# Altium integrated library Capacitors - Ceramic - 0402.IntLib: 4569 symbols (part 64 of 100)
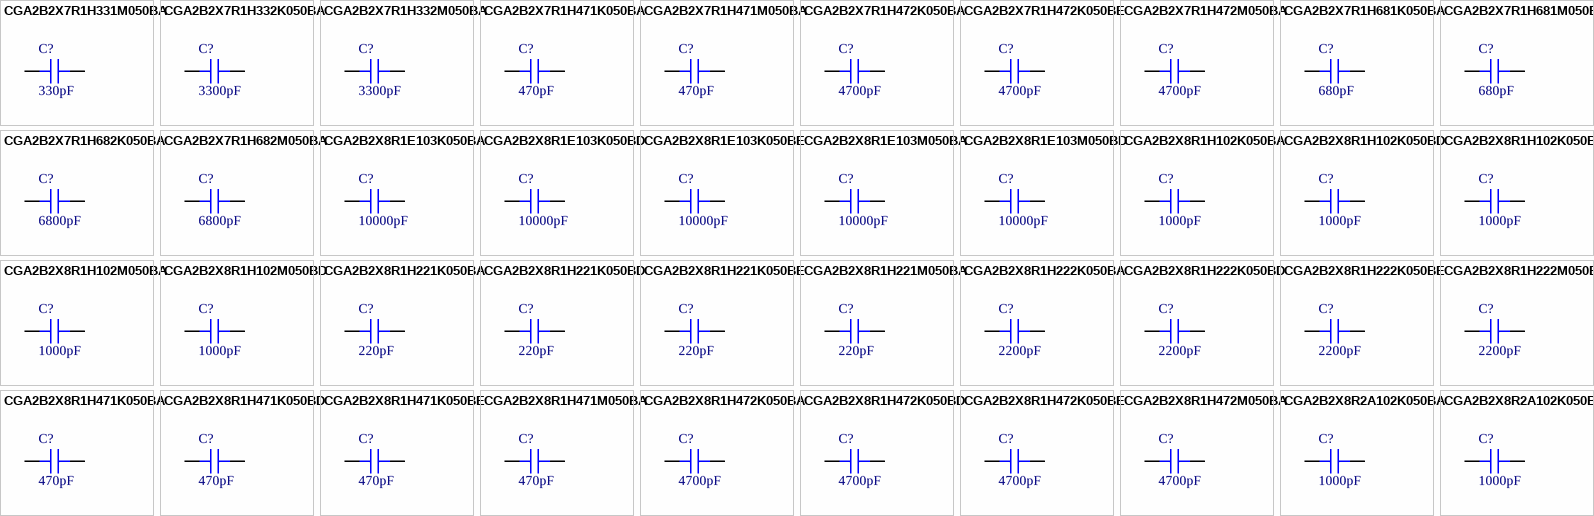
[diagram p177: symbols CGA2B2X7R1H331M050BA to CGA2B2X8R2A102K050BE]

## CGA2B2X8R1H102K050BD
designator C?, comment 1000pF
CAP CER 1000PF 50V 0402 EPOXY; Part Number: CGA2B2X8R1H102K050BD; Manufacturer: TDK Corporation; Temperature Coefficient: X8R; Tolerance: ±10%; Value: 1000pF; Applications: Automotive; Capacitance: 1000pF; ComponentLink1Description: Datasheet; ComponentLink1URL: https://product.tdk.com/info/en/catalog/datasheets/mlcc_automotive_epoxy_en.pdf?ref_disty=digikey; ComponentLink2Description: DigiKey Link; ComponentLink2URL: http://digikey.com/product-detail/en/tdk-corporation/CGA2B2X8R1H102K050BD/445-8854-1-ND/3248266; Device Package: 0402 (1005 Metric); Features: Epoxy Mountable; LastUpdated: 9/2/2020 1:02:18 AM; Lifecycle Status: Active; Minimum Order: 1; Mounting Type: Surface Mount, MLCC, Epoxy; Operating Temperature: -55°C ~ 150°C; Package / Case: 0402 (1005 Metric); Packaging: TapeAndReel; PartId: 4351; Part Status: Active; Price: 0.04; Ratings: AEC-Q200; Series: CGA; Size / Dimension: 0.039" L x 0.020" W (1.00mm x 0.50mm); Supplier 1: DigiKey; Supplier Part Number 1: 445-8854-1-ND; Thickness (Max): 0.022" (0.55mm); Voltage - Rated: 50V
footprint CAP 0402_1005
pins: 1, 2

## CGA2B2X8R1H102K050BE
designator C?, comment 1000pF
CAP CER 1000PF 50V X8R 0402; Part Number: CGA2B2X8R1H102K050BE; Manufacturer: TDK Corporation; Tolerance: ±10%; Value: 1000pF; Applications: Automotive, Boardflex Sensitive; Capacitance: 1000pF; ComponentLink1Description: Datasheet; ComponentLink1URL: https://product.tdk.com/info/en/catalog/datasheets/mlcc_automotive_soft_en.pdf?ref_disty=digikey; ComponentLink2Description: DigiKey Link; ComponentLink2URL: http://digikey.com/product-detail/en/tdk-corporation/CGA2B2X8R1H102K050BE/445-173800-1-ND/5809871; Device Package: 0402 (1005 Metric); Features: Soft Termination; LastUpdated: 9/2/2020 1:02:08 AM; Lifecycle Status: Active; Minimum Order: 1; Mounting Type: Surface Mount, MLCC; Operating Temperature: -55°C ~ 150°C; Package / Case: 0402 (1005 Metric); Packaging: TapeAndReel; PartId: 9241; Part Status: Active; Price: 0.04; Ratings: AEC-Q200; Series: CGA; Size / Dimension: 0.039" L x 0.020" W (1.00mm x 0.50mm); Supplier 1: DigiKey; Supplier Part Number 1: 445-173800-1-ND; Temperature Coefficient: X8R; Thickness (Max): 0.024" (0.60mm); Voltage - Rated: 50V
footprint CAP 0402_1005
pins: 1, 2

## CGA2B2X8R1H102M050BA
designator C?, comment 1000pF
CAP CER 1000PF 50V X8R 0402; Part Number: CGA2B2X8R1H102M050BA; Manufacturer: TDK Corporation; Tolerance: ±20%; Value: 1000pF; Applications: Automotive; Capacitance: 1000pF; ComponentLink1Description: Datasheet; ComponentLink1URL: https://product.tdk.com/info/en/catalog/datasheets/mlcc_automotive_hightemp_en.pdf?ref_disty=digikey; ComponentLink2Description: DigiKey Link; ComponentLink2URL: http://digikey.com/product-detail/en/tdk-corporation/CGA2B2X8R1H102M050BA/445-12305-1-ND/3953971; Device Package: 0402 (1005 Metric); Features: High Temperature; LastUpdated: 9/2/2020 1:01:58 AM; Lifecycle Status: Active; Minimum Order: 1; Mounting Type: Surface Mount, MLCC; Operating Temperature: -55°C ~ 150°C; Package / Case: 0402 (1005 Metric); Packaging: TapeAndReel; PartId: 11921; Part Status: Active; Price: 0.02; Ratings: AEC-Q200; Series: CGA; Size / Dimension: 0.039" L x 0.020" W (1.00mm x 0.50mm); Supplier 1: DigiKey; Supplier Part Number 1: 445-12305-1-ND; Temperature Coefficient: X8R; Thickness (Max): 0.022" (0.55mm); Voltage - Rated: 50V
footprint CAP 0402_1005
pins: 1, 2

## CGA2B2X8R1H102M050BD
designator C?, comment 1000pF
CAP CER 1000PF 50V 0402 EPOXY; Part Number: CGA2B2X8R1H102M050BD; Manufacturer: TDK Corporation; Temperature Coefficient: X8R; Tolerance: ±20%; Value: 1000pF; Applications: Automotive; Capacitance: 1000pF; ComponentLink1Description: Datasheet; ComponentLink1URL: https://product.tdk.com/info/en/catalog/datasheets/mlcc_automotive_epoxy_en.pdf?ref_disty=digikey; ComponentLink2Description: DigiKey Link; ComponentLink2URL: http://digikey.com/product-detail/en/tdk-corporation/CGA2B2X8R1H102M050BD/445-9708-1-ND/3931635; Device Package: 0402 (1005 Metric); Features: Epoxy Mountable; LastUpdated: 9/2/2020 1:02:08 AM; Lifecycle Status: Active; Minimum Order: 1; Mounting Type: Surface Mount, MLCC, Epoxy; Operating Temperature: -55°C ~ 150°C; Package / Case: 0402 (1005 Metric); Packaging: TapeAndReel; PartId: 9251; Part Status: Active; Price: 0.04; Ratings: AEC-Q200; Series: CGA; Size / Dimension: 0.039" L x 0.020" W (1.00mm x 0.50mm); Supplier 1: DigiKey; Supplier Part Number 1: 445-9708-1-ND; Thickness (Max): 0.024" (0.60mm); Voltage - Rated: 50V
footprint CAP 0402_1005
pins: 1, 2

## CGA2B2X8R1H221K050BA
designator C?, comment 220pF
CAP CER 220PF 50V X8R 0402; Part Number: CGA2B2X8R1H221K050BA; Manufacturer: TDK Corporation; Tolerance: ±10%; Value: 220pF; Applications: Automotive; Capacitance: 220pF; ComponentLink1Description: Datasheet; ComponentLink1URL: https://product.tdk.com/info/en/catalog/datasheets/mlcc_automotive_hightemp_en.pdf?ref_disty=digikey; ComponentLink2Description: DigiKey Link; ComponentLink2URL: http://digikey.com/product-detail/en/tdk-corporation/CGA2B2X8R1H221K050BA/445-5875-1-ND/2443915; Device Package: 0402 (1005 Metric); Features: High Temperature; LastUpdated: 9/2/2020 1:02:25 AM; Lifecycle Status: Active; Minimum Order: 1; Mounting Type: Surface Mount, MLCC; Operating Temperature: -55°C ~ 150°C; Package / Case: 0402 (1005 Metric); Packaging: TapeAndReel; PartId: 1793; Part Status: Active; Price: 0.02; Ratings: AEC-Q200; Series: CGA; Size / Dimension: 0.039" L x 0.020" W (1.00mm x 0.50mm); Supplier 1: DigiKey; Supplier Part Number 1: 445-5875-1-ND; Temperature Coefficient: X8R; Thickness (Max): 0.022" (0.55mm); Voltage - Rated: 50V
footprint CAP 0402_1005
pins: 1, 2

## CGA2B2X8R1H221K050BD
designator C?, comment 220pF
CAP CER 220PF 50V X8R 0402 EPOXY; Part Number: CGA2B2X8R1H221K050BD; Manufacturer: TDK Corporation; Tolerance: ±10%; Value: 220pF; Applications: Automotive; Capacitance: 220pF; ComponentLink1Description: Datasheet; ComponentLink1URL: https://product.tdk.com/info/en/catalog/datasheets/mlcc_automotive_epoxy_en.pdf?ref_disty=digikey; ComponentLink2Description: DigiKey Link; ComponentLink2URL: http://digikey.com/product-detail/en/tdk-corporation/CGA2B2X8R1H221K050BD/445-8856-1-ND/3248254; Device Package: 0402 (1005 Metric); Features: Epoxy Mountable; LastUpdated: 9/2/2020 1:02:18 AM; Lifecycle Status: Active; Minimum Order: 1; Mounting Type: Surface Mount, MLCC, Epoxy; Operating Temperature: -55°C ~ 150°C; Package / Case: 0402 (1005 Metric); Packaging: TapeAndReel; PartId: 4348; Part Status: Active; Price: 0.04; Ratings: AEC-Q200; Series: CGA; Size / Dimension: 0.039" L x 0.020" W (1.00mm x 0.50mm); Supplier 1: DigiKey; Supplier Part Number 1: 445-8856-1-ND; Temperature Coefficient: X8R; Thickness (Max): 0.022" (0.55mm); Voltage - Rated: 50V
footprint CAP 0402_1005
pins: 1, 2

## CGA2B2X8R1H221K050BE
designator C?, comment 220pF
CAP CER 220PF 50V X8R 0402; Part Number: CGA2B2X8R1H221K050BE; Manufacturer: TDK Corporation; Tolerance: ±10%; Value: 220pF; Applications: Automotive, Boardflex Sensitive; Capacitance: 220pF; ComponentLink1Description: Datasheet; ComponentLink1URL: https://product.tdk.com/info/en/catalog/datasheets/mlcc_automotive_soft_en.pdf?ref_disty=digikey; ComponentLink2Description: DigiKey Link; ComponentLink2URL: http://digikey.com/product-detail/en/tdk-corporation/CGA2B2X8R1H221K050BE/445-173829-1-ND/5809900; Device Package: 0402 (1005 Metric); Features: Soft Termination; LastUpdated: 9/2/2020 1:02:04 AM; Lifecycle Status: Active; Minimum Order: 1; Mounting Type: Surface Mount, MLCC; Operating Temperature: -55°C ~ 150°C; Package / Case: 0402 (1005 Metric); Packaging: TapeAndReel; PartId: 10948; Part Status: Active; Price: 0.04; Ratings: AEC-Q200; Series: CGA; Size / Dimension: 0.039" L x 0.020" W (1.00mm x 0.50mm); Supplier 1: DigiKey; Supplier Part Number 1: 445-173829-1-ND; Temperature Coefficient: X8R; Thickness (Max): 0.024" (0.60mm); Voltage - Rated: 50V
footprint CAP 0402_1005
pins: 1, 2

## CGA2B2X8R1H221M050BA
designator C?, comment 220pF
CAP CER 220PF 50V X8R 0402; Part Number: CGA2B2X8R1H221M050BA; Manufacturer: TDK Corporation; Tolerance: ±20%; Value: 220pF; Applications: Automotive; Capacitance: 220pF; ComponentLink1Description: Datasheet; ComponentLink1URL: https://product.tdk.com/info/en/catalog/datasheets/mlcc_automotive_hightemp_en.pdf?ref_disty=digikey; ComponentLink2Description: DigiKey Link; ComponentLink2URL: http://digikey.com/product-detail/en/tdk-corporation/CGA2B2X8R1H221M050BA/445-12309-1-ND/3953975; Device Package: 0402 (1005 Metric); Features: High Temperature; LastUpdated: 9/2/2020 1:01:23 AM; Lifecycle Status: Active; Minimum Order: 1; Mounting Type: Surface Mount, MLCC; Operating Temperature: -55°C ~ 150°C; Package / Case: 0402 (1005 Metric); Packaging: TapeAndReel; PartId: 13141; Part Status: Active; Price: 0.02; Ratings: AEC-Q200; Series: CGA; Size / Dimension: 0.039" L x 0.020" W (1.00mm x 0.50mm); Supplier 1: DigiKey; Supplier Part Number 1: 445-12309-1-ND; Temperature Coefficient: X8R; Thickness (Max): 0.022" (0.55mm); Voltage - Rated: 50V
footprint CAP 0402_1005
pins: 1, 2

## CGA2B2X8R1H222K050BA
designator C?, comment 2200pF
CAP CER 2200PF 50V X8R 0402; Part Number: CGA2B2X8R1H222K050BA; Manufacturer: TDK Corporation; Tolerance: ±10%; Value: 2200pF; Applications: Automotive; Capacitance: 2200pF; ComponentLink1Description: Datasheet; ComponentLink1URL: https://product.tdk.com/info/en/catalog/datasheets/mlcc_automotive_hightemp_en.pdf?ref_disty=digikey; ComponentLink2Description: DigiKey Link; ComponentLink2URL: http://digikey.com/product-detail/en/tdk-corporation/CGA2B2X8R1H222K050BA/445-5881-1-ND/2443921; Device Package: 0402 (1005 Metric); Features: High Temperature; LastUpdated: 9/2/2020 1:01:57 AM; Lifecycle Status: Active; Minimum Order: 1; Mounting Type: Surface Mount, MLCC; Operating Temperature: -55°C ~ 150°C; Package / Case: 0402 (1005 Metric); Packaging: TapeAndReel; PartId: 11954; Part Status: Active; Price: 0.03; Ratings: AEC-Q200; Series: CGA; Size / Dimension: 0.039" L x 0.020" W (1.00mm x 0.50mm); Supplier 1: DigiKey; Supplier Part Number 1: 445-5881-1-ND; Temperature Coefficient: X8R; Thickness (Max): 0.022" (0.55mm); Voltage - Rated: 50V
footprint CAP 0402_1005
pins: 1, 2

## CGA2B2X8R1H222K050BD
designator C?, comment 2200pF
CAP CER 2200PF 50V 0402 EPOXY; Part Number: CGA2B2X8R1H222K050BD; Manufacturer: TDK Corporation; Temperature Coefficient: X8R; Tolerance: ±10%; Value: 2200pF; Applications: Automotive; Capacitance: 2200pF; ComponentLink1Description: Datasheet; ComponentLink1URL: https://product.tdk.com/info/en/catalog/datasheets/mlcc_automotive_epoxy_en.pdf?ref_disty=digikey; ComponentLink2Description: DigiKey Link; ComponentLink2URL: http://digikey.com/product-detail/en/tdk-corporation/CGA2B2X8R1H222K050BD/445-8853-1-ND/3248271; Device Package: 0402 (1005 Metric); Features: Epoxy Mountable; LastUpdated: 9/2/2020 1:02:08 AM; Lifecycle Status: Active; Minimum Order: 1; Mounting Type: Surface Mount, MLCC, Epoxy; Operating Temperature: -55°C ~ 150°C; Package / Case: 0402 (1005 Metric); Packaging: TapeAndReel; PartId: 9225; Part Status: Active; Price: 0.04; Ratings: AEC-Q200; Series: CGA; Size / Dimension: 0.039" L x 0.020" W (1.00mm x 0.50mm); Supplier 1: DigiKey; Supplier Part Number 1: 445-8853-1-ND; Thickness (Max): 0.022" (0.55mm); Voltage - Rated: 50V
footprint CAP 0402_1005
pins: 1, 2

## CGA2B2X8R1H222K050BE
designator C?, comment 2200pF
CAP CER 2200PF 50V X8R 0402; Part Number: CGA2B2X8R1H222K050BE; Manufacturer: TDK Corporation; Tolerance: ±10%; Value: 2200pF; Applications: Automotive, Boardflex Sensitive; Capacitance: 2200pF; ComponentLink1Description: Datasheet; ComponentLink1URL: https://product.tdk.com/info/en/catalog/datasheets/mlcc_automotive_soft_en.pdf?ref_disty=digikey; ComponentLink2Description: DigiKey Link; ComponentLink2URL: http://digikey.com/product-detail/en/tdk-corporation/CGA2B2X8R1H222K050BE/445-173815-1-ND/5809886; Device Package: 0402 (1005 Metric); Features: Soft Termination; LastUpdated: 9/2/2020 1:02:04 AM; Lifecycle Status: Active; Minimum Order: 1; Mounting Type: Surface Mount, MLCC; Operating Temperature: -55°C ~ 150°C; Package / Case: 0402 (1005 Metric); Packaging: TapeAndReel; PartId: 10952; Part Status: Active; Price: 0.04; Ratings: AEC-Q200; Series: CGA; Size / Dimension: 0.039" L x 0.020" W (1.00mm x 0.50mm); Supplier 1: DigiKey; Supplier Part Number 1: 445-173815-1-ND; Temperature Coefficient: X8R; Thickness (Max): 0.024" (0.60mm); Voltage - Rated: 50V
footprint CAP 0402_1005
pins: 1, 2

## CGA2B2X8R1H222M050BA
designator C?, comment 2200pF
CAP CER 2200PF 50V X8R 0402; Part Number: CGA2B2X8R1H222M050BA; Manufacturer: TDK Corporation; Tolerance: ±20%; Value: 2200pF; Applications: Automotive; Capacitance: 2200pF; ComponentLink1Description: Datasheet; ComponentLink1URL: https://product.tdk.com/info/en/catalog/datasheets/mlcc_automotive_hightemp_en.pdf?ref_disty=digikey; ComponentLink2Description: DigiKey Link; ComponentLink2URL: http://digikey.com/product-detail/en/tdk-corporation/CGA2B2X8R1H222M050BA/445-12308-1-ND/3953974; Device Package: 0402 (1005 Metric); Features: High Temperature; LastUpdated: 9/2/2020 1:01:56 AM; Lifecycle Status: Active; Minimum Order: 1; Mounting Type: Surface Mount, MLCC; Operating Temperature: -55°C ~ 150°C; Package / Case: 0402 (1005 Metric); Packaging: TapeAndReel; PartId: 11964; Part Status: Active; Price: 0.03; Ratings: AEC-Q200; Series: CGA; Size / Dimension: 0.039" L x 0.020" W (1.00mm x 0.50mm); Supplier 1: DigiKey; Supplier Part Number 1: 445-12308-1-ND; Temperature Coefficient: X8R; Thickness (Max): 0.022" (0.55mm); Voltage - Rated: 50V
footprint CAP 0402_1005
pins: 1, 2

## CGA2B2X8R1H471K050BA
designator C?, comment 470pF
CAP CER 470PF 50V X8R 0402; Part Number: CGA2B2X8R1H471K050BA; Manufacturer: TDK Corporation; Tolerance: ±10%; Value: 470pF; Applications: Automotive; Capacitance: 470pF; ComponentLink1Description: Datasheet; ComponentLink1URL: https://product.tdk.com/info/en/catalog/datasheets/mlcc_automotive_hightemp_en.pdf?ref_disty=digikey; ComponentLink2Description: DigiKey Link; ComponentLink2URL: http://digikey.com/product-detail/en/tdk-corporation/CGA2B2X8R1H471K050BA/445-5877-1-ND/2443917; Device Package: 0402 (1005 Metric); Features: High Temperature; LastUpdated: 9/2/2020 1:02:25 AM; Lifecycle Status: Active; Minimum Order: 1; Mounting Type: Surface Mount, MLCC; Operating Temperature: -55°C ~ 150°C; Package / Case: 0402 (1005 Metric); Packaging: TapeAndReel; PartId: 1791; Part Status: Active; Price: 0.02; Ratings: AEC-Q200; Series: CGA; Size / Dimension: 0.039" L x 0.020" W (1.00mm x 0.50mm); Supplier 1: DigiKey; Supplier Part Number 1: 445-5877-1-ND; Temperature Coefficient: X8R; Thickness (Max): 0.022" (0.55mm); Voltage - Rated: 50V
footprint CAP 0402_1005
pins: 1, 2

## CGA2B2X8R1H471K050BD
designator C?, comment 470pF
CAP CER 470PF 50V X8R 0402 EPOXY; Part Number: CGA2B2X8R1H471K050BD; Manufacturer: TDK Corporation; Tolerance: ±10%; Value: 470pF; Applications: Automotive; Capacitance: 470pF; ComponentLink1Description: Datasheet; ComponentLink1URL: https://product.tdk.com/info/en/catalog/datasheets/mlcc_automotive_epoxy_en.pdf?ref_disty=digikey; ComponentLink2Description: DigiKey Link; ComponentLink2URL: http://digikey.com/product-detail/en/tdk-corporation/CGA2B2X8R1H471K050BD/445-8855-1-ND/3248202; Device Package: 0402 (1005 Metric); Features: Epoxy Mountable; LastUpdated: 9/2/2020 1:02:22 AM; Lifecycle Status: Active; Minimum Order: 1; Mounting Type: Surface Mount, MLCC, Epoxy; Operating Temperature: -55°C ~ 150°C; Package / Case: 0402 (1005 Metric); Packaging: TapeAndReel; PartId: 2479; Part Status: Active; Price: 0.04; Ratings: AEC-Q200; Series: CGA; Size / Dimension: 0.039" L x 0.020" W (1.00mm x 0.50mm); Supplier 1: DigiKey; Supplier Part Number 1: 445-8855-1-ND; Temperature Coefficient: X8R; Thickness (Max): 0.022" (0.55mm); Voltage - Rated: 50V
footprint CAP 0402_1005
pins: 1, 2

## CGA2B2X8R1H471K050BE
designator C?, comment 470pF
CAP CER 470PF 50V X8R 0402; Part Number: CGA2B2X8R1H471K050BE; Manufacturer: TDK Corporation; Tolerance: ±10%; Value: 470pF; Applications: Automotive, Boardflex Sensitive; Capacitance: 470pF; ComponentLink1Description: Datasheet; ComponentLink1URL: https://product.tdk.com/info/en/catalog/datasheets/mlcc_automotive_soft_en.pdf?ref_disty=digikey; ComponentLink2Description: DigiKey Link; ComponentLink2URL: http://digikey.com/product-detail/en/tdk-corporation/CGA2B2X8R1H471K050BE/445-173855-1-ND/5809926; Device Package: 0402 (1005 Metric); Features: Soft Termination; LastUpdated: 9/2/2020 1:02:04 AM; Lifecycle Status: Active; Minimum Order: 1; Mounting Type: Surface Mount, MLCC; Operating Temperature: -55°C ~ 150°C; Package / Case: 0402 (1005 Metric); Packaging: TapeAndReel; PartId: 10960; Part Status: Active; Price: 0.04; Ratings: AEC-Q200; Series: CGA; Size / Dimension: 0.039" L x 0.020" W (1.00mm x 0.50mm); Supplier 1: DigiKey; Supplier Part Number 1: 445-173855-1-ND; Temperature Coefficient: X8R; Thickness (Max): 0.024" (0.60mm); Voltage - Rated: 50V
footprint CAP 0402_1005
pins: 1, 2

## CGA2B2X8R1H471M050BA
designator C?, comment 470pF
CAP CER 470PF 50V X8R 0402; Part Number: CGA2B2X8R1H471M050BA; Manufacturer: TDK Corporation; Tolerance: ±20%; Value: 470pF; Applications: Automotive; Capacitance: 470pF; ComponentLink1Description: Datasheet; ComponentLink1URL: https://product.tdk.com/info/en/catalog/datasheets/mlcc_automotive_hightemp_en.pdf?ref_disty=digikey; ComponentLink2Description: DigiKey Link; ComponentLink2URL: http://digikey.com/product-detail/en/tdk-corporation/CGA2B2X8R1H471M050BA/445-12313-1-ND/3953979; Device Package: 0402 (1005 Metric); Features: High Temperature; LastUpdated: 9/2/2020 1:01:23 AM; Lifecycle Status: Active; Minimum Order: 1; Mounting Type: Surface Mount, MLCC; Operating Temperature: -55°C ~ 150°C; Package / Case: 0402 (1005 Metric); Packaging: TapeAndReel; PartId: 13125; Part Status: Active; Price: 0.02; Ratings: AEC-Q200; Series: CGA; Size / Dimension: 0.039" L x 0.020" W (1.00mm x 0.50mm); Supplier 1: DigiKey; Supplier Part Number 1: 445-12313-1-ND; Temperature Coefficient: X8R; Thickness (Max): 0.022" (0.55mm); Voltage - Rated: 50V
footprint CAP 0402_1005
pins: 1, 2

## CGA2B2X8R1H472K050BA
designator C?, comment 4700pF
CAP CER 4700PF 50V X8R 0402; Part Number: CGA2B2X8R1H472K050BA; Manufacturer: TDK Corporation; Tolerance: ±10%; Value: 4700pF; Applications: Automotive; Capacitance: 4700pF; ComponentLink1Description: Datasheet; ComponentLink1URL: https://product.tdk.com/info/en/catalog/datasheets/mlcc_automotive_hightemp_en.pdf?ref_disty=digikey; ComponentLink2Description: DigiKey Link; ComponentLink2URL: http://digikey.com/product-detail/en/tdk-corporation/CGA2B2X8R1H472K050BA/445-5883-1-ND/2443923; Device Package: 0402 (1005 Metric); Features: High Temperature; LastUpdated: 9/2/2020 1:01:15 AM; Lifecycle Status: Active; Minimum Order: 1; Mounting Type: Surface Mount, MLCC; Operating Temperature: -55°C ~ 150°C; Package / Case: 0402 (1005 Metric); Packaging: TapeAndReel; PartId: 13402; Part Status: Active; Price: 0.03; Ratings: AEC-Q200; Series: CGA; Size / Dimension: 0.039" L x 0.020" W (1.00mm x 0.50mm); Supplier 1: DigiKey; Supplier Part Number 1: 445-5883-1-ND; Temperature Coefficient: X8R; Thickness (Max): 0.022" (0.55mm); Voltage - Rated: 50V
footprint CAP 0402_1005
pins: 1, 2

## CGA2B2X8R1H472K050BD
designator C?, comment 4700pF
CAP CER 4700PF 50V 0402 EPOXY; Part Number: CGA2B2X8R1H472K050BD; Manufacturer: TDK Corporation; Temperature Coefficient: X8R; Tolerance: ±10%; Value: 4700pF; Applications: Automotive; Capacitance: 4700pF; ComponentLink1Description: Datasheet; ComponentLink1URL: https://product.tdk.com/info/en/catalog/datasheets/mlcc_automotive_epoxy_en.pdf?ref_disty=digikey; ComponentLink2Description: DigiKey Link; ComponentLink2URL: http://digikey.com/product-detail/en/tdk-corporation/CGA2B2X8R1H472K050BD/445-8844-1-ND/3248274; Device Package: 0402 (1005 Metric); Features: Epoxy Mountable; LastUpdated: 9/2/2020 1:02:08 AM; Lifecycle Status: Active; Minimum Order: 1; Mounting Type: Surface Mount, MLCC, Epoxy; Operating Temperature: -55°C ~ 150°C; Package / Case: 0402 (1005 Metric); Packaging: TapeAndReel; PartId: 9265; Part Status: Active; Price: 0.04; Ratings: AEC-Q200; Series: CGA; Size / Dimension: 0.039" L x 0.020" W (1.00mm x 0.50mm); Supplier 1: DigiKey; Supplier Part Number 1: 445-8844-1-ND; Thickness (Max): 0.022" (0.55mm); Voltage - Rated: 50V
footprint CAP 0402_1005
pins: 1, 2

## CGA2B2X8R1H472K050BE
designator C?, comment 4700pF
CAP CER 4700PF 50V X8R 0402; Part Number: CGA2B2X8R1H472K050BE; Manufacturer: TDK Corporation; Tolerance: ±10%; Value: 4700pF; Applications: Automotive, Boardflex Sensitive; Capacitance: 4700pF; ComponentLink1Description: Datasheet; ComponentLink1URL: https://product.tdk.com/info/en/catalog/datasheets/mlcc_automotive_soft_en.pdf?ref_disty=digikey; ComponentLink2Description: DigiKey Link; ComponentLink2URL: http://digikey.com/product-detail/en/tdk-corporation/CGA2B2X8R1H472K050BE/445-173824-1-ND/5809895; Device Package: 0402 (1005 Metric); Features: Soft Termination; LastUpdated: 9/2/2020 1:02:04 AM; Lifecycle Status: Active; Minimum Order: 1; Mounting Type: Surface Mount, MLCC; Operating Temperature: -55°C ~ 150°C; Package / Case: 0402 (1005 Metric); Packaging: TapeAndReel; PartId: 10989; Part Status: Active; Price: 0.04; Ratings: AEC-Q200; Series: CGA; Size / Dimension: 0.039" L x 0.020" W (1.00mm x 0.50mm); Supplier 1: DigiKey; Supplier Part Number 1: 445-173824-1-ND; Temperature Coefficient: X8R; Thickness (Max): 0.024" (0.60mm); Voltage - Rated: 50V
footprint CAP 0402_1005
pins: 1, 2

## CGA2B2X8R1H472M050BA
designator C?, comment 4700pF
CAP CER 4700PF 50V X8R 0402; Part Number: CGA2B2X8R1H472M050BA; Manufacturer: TDK Corporation; Tolerance: ±20%; Value: 4700pF; Applications: Automotive; Capacitance: 4700pF; ComponentLink1Description: Datasheet; ComponentLink1URL: https://product.tdk.com/info/en/catalog/datasheets/mlcc_automotive_hightemp_en.pdf?ref_disty=digikey; ComponentLink2Description: DigiKey Link; ComponentLink2URL: http://digikey.com/product-detail/en/tdk-corporation/CGA2B2X8R1H472M050BA/445-12312-1-ND/3953978; Device Package: 0402 (1005 Metric); Features: High Temperature; LastUpdated: 9/2/2020 1:02:14 AM; Lifecycle Status: Active; Minimum Order: 1; Mounting Type: Surface Mount, MLCC; Operating Temperature: -55°C ~ 150°C; Package / Case: 0402 (1005 Metric); Packaging: TapeAndReel; PartId: 6452; Part Status: Active; Price: 0.03; Ratings: AEC-Q200; Series: CGA; Size / Dimension: 0.039" L x 0.020" W (1.00mm x 0.50mm); Supplier 1: DigiKey; Supplier Part Number 1: 445-12312-1-ND; Temperature Coefficient: X8R; Thickness (Max): 0.022" (0.55mm); Voltage - Rated: 50V
footprint CAP 0402_1005
pins: 1, 2

## CGA2B2X8R2A102K050BA
designator C?, comment 1000pF
CAP CER 1000PF 100V X8R 0402; Part Number: CGA2B2X8R2A102K050BA; Manufacturer: TDK Corporation; Tolerance: ±10%; Value: 1000pF; Applications: Automotive; Capacitance: 1000pF; ComponentLink1Description: Datasheet; ComponentLink1URL: https://product.tdk.com/info/en/catalog/datasheets/mlcc_automotive_hightemp_en.pdf?ref_disty=digikey; ComponentLink2Description: DigiKey Link; ComponentLink2URL: http://digikey.com/product-detail/en/tdk-corporation/CGA2B2X8R2A102K050BA/445-15935-1-ND/4490643; Device Package: 0402 (1005 Metric); Features: High Temperature; LastUpdated: 9/2/2020 1:02:14 AM; Lifecycle Status: Active; Minimum Order: 1; Mounting Type: Surface Mount, MLCC; Operating Temperature: -55°C ~ 150°C; Package / Case: 0402 (1005 Metric); Packaging: TapeAndReel; PartId: 6379; Part Status: Active; Price: 0.05; Ratings: AEC-Q200; Series: CGA; Size / Dimension: 0.039" L x 0.020" W (1.00mm x 0.50mm); Supplier 1: DigiKey; Supplier Part Number 1: 445-15935-1-ND; Temperature Coefficient: X8R; Thickness (Max): 0.022" (0.55mm); Voltage - Rated: 100V
footprint CAP 0402_1005
pins: 1, 2

## CGA2B2X8R2A102K050BE
designator C?, comment 1000pF
CAP CER 1000PF 100V X8R 0402; Part Number: CGA2B2X8R2A102K050BE; Manufacturer: TDK Corporation; Tolerance: ±10%; Value: 1000pF; Applications: Automotive, Boardflex Sensitive; Capacitance: 1000pF; ComponentLink1Description: Datasheet; ComponentLink1URL: https://product.tdk.com/info/en/catalog/datasheets/mlcc_automotive_soft_en.pdf?ref_disty=digikey; ComponentLink2Description: DigiKey Link; ComponentLink2URL: http://digikey.com/product-detail/en/tdk-corporation/CGA2B2X8R2A102K050BE/445-181687-1-ND/10292484; Device Package: 0402 (1005 Metric); Features: Soft Termination; LastUpdated: 9/2/2020 1:01:47 AM; Lifecycle Status: Active; Minimum Order: 1; Mounting Type: Surface Mount, MLCC; Operating Temperature: -55°C ~ 150°C; Package / Case: 0402 (1005 Metric); Packaging: TapeAndReel; PartId: 12323; Part Status: Active; Price: 0.06; Ratings: AEC-Q200; Series: CGA; Size / Dimension: 0.039" L x 0.020" W (1.00mm x 0.50mm); Supplier 1: DigiKey; Supplier Part Number 1: 445-181687-1-ND; Temperature Coefficient: X8R; Thickness (Max): 0.024" (0.60mm); Voltage - Rated: 100V
footprint CAP 0402_1005
pins: 1, 2

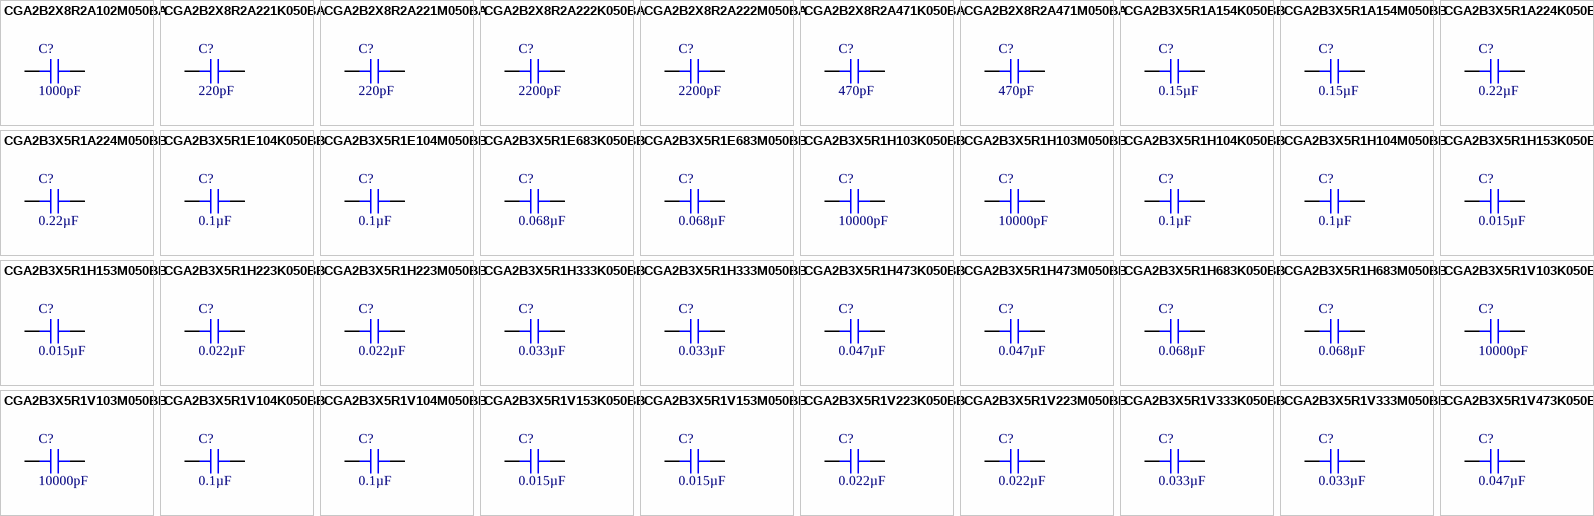
[diagram p73: symbols CGA2B2X8R2A102M050BA to CGA2B3X5R1V473K050BB]

## CGA2B2X8R2A102M050BA
designator C?, comment 1000pF
CAP CER 1000PF 100V X8R 0402; Part Number: CGA2B2X8R2A102M050BA; Manufacturer: TDK Corporation; Tolerance: ±20%; Value: 1000pF; Applications: Automotive; Capacitance: 1000pF; ComponentLink1Description: Datasheet; ComponentLink1URL: https://product.tdk.com/info/en/catalog/datasheets/mlcc_automotive_hightemp_en.pdf?ref_disty=digikey; ComponentLink2Description: DigiKey Link; ComponentLink2URL: http://digikey.com/product-detail/en/tdk-corporation/CGA2B2X8R2A102M050BA/445-15936-1-ND/4490644; Device Package: 0402 (1005 Metric); Features: High Temperature; LastUpdated: 9/2/2020 1:02:06 AM; Lifecycle Status: Active; Minimum Order: 1; Mounting Type: Surface Mount, MLCC; Operating Temperature: -55°C ~ 150°C; Package / Case: 0402 (1005 Metric); Packaging: TapeAndReel; PartId: 10163; Part Status: Active; Price: 0.05; Ratings: AEC-Q200; Series: CGA; Size / Dimension: 0.039" L x 0.020" W (1.00mm x 0.50mm); Supplier 1: DigiKey; Supplier Part Number 1: 445-15936-1-ND; Temperature Coefficient: X8R; Thickness (Max): 0.022" (0.55mm); Voltage - Rated: 100V
footprint CAP 0402_1005
pins: 1, 2

## CGA2B2X8R2A221K050BA
designator C?, comment 220pF
CAP CER 220PF 100V X8R 0402; Part Number: CGA2B2X8R2A221K050BA; Manufacturer: TDK Corporation; Tolerance: ±10%; Value: 220pF; Applications: Automotive; Capacitance: 220pF; ComponentLink1Description: Datasheet; ComponentLink1URL: https://product.tdk.com/info/en/catalog/datasheets/mlcc_automotive_hightemp_en.pdf?ref_disty=digikey; ComponentLink2Description: DigiKey Link; ComponentLink2URL: http://digikey.com/product-detail/en/tdk-corporation/CGA2B2X8R2A221K050BA/445-15941-1-ND/4490649; Device Package: 0402 (1005 Metric); Features: High Temperature; LastUpdated: 9/2/2020 1:02:08 AM; Lifecycle Status: Active; Minimum Order: 1; Mounting Type: Surface Mount, MLCC; Operating Temperature: -55°C ~ 150°C; Package / Case: 0402 (1005 Metric); Packaging: TapeAndReel; PartId: 9297; Part Status: Active; Price: 0.04; Ratings: AEC-Q200; Series: CGA; Size / Dimension: 0.039" L x 0.020" W (1.00mm x 0.50mm); Supplier 1: DigiKey; Supplier Part Number 1: 445-15941-1-ND; Temperature Coefficient: X8R; Thickness (Max): 0.022" (0.55mm); Voltage - Rated: 100V
footprint CAP 0402_1005
pins: 1, 2

## CGA2B2X8R2A221M050BA
designator C?, comment 220pF
CAP CER 220PF 100V X8R 0402; Part Number: CGA2B2X8R2A221M050BA; Manufacturer: TDK Corporation; Tolerance: ±20%; Value: 220pF; Applications: Automotive; Capacitance: 220pF; ComponentLink1Description: Datasheet; ComponentLink1URL: https://product.tdk.com/info/en/catalog/datasheets/mlcc_automotive_hightemp_en.pdf?ref_disty=digikey; ComponentLink2Description: DigiKey Link; ComponentLink2URL: http://digikey.com/product-detail/en/tdk-corporation/CGA2B2X8R2A221M050BA/445-15942-1-ND/4490650; Device Package: 0402 (1005 Metric); Features: High Temperature; LastUpdated: 9/2/2020 1:02:08 AM; Lifecycle Status: Active; Minimum Order: 1; Mounting Type: Surface Mount, MLCC; Operating Temperature: -55°C ~ 150°C; Package / Case: 0402 (1005 Metric); Packaging: TapeAndReel; PartId: 9244; Part Status: Active; Price: 0.04; Ratings: AEC-Q200; Series: CGA; Size / Dimension: 0.039" L x 0.020" W (1.00mm x 0.50mm); Supplier 1: DigiKey; Supplier Part Number 1: 445-15942-1-ND; Temperature Coefficient: X8R; Thickness (Max): 0.022" (0.55mm); Voltage - Rated: 100V
footprint CAP 0402_1005
pins: 1, 2

## CGA2B2X8R2A222K050BA
designator C?, comment 2200pF
CAP CER 2200PF 100V X8R 0402; Part Number: CGA2B2X8R2A222K050BA; Manufacturer: TDK Corporation; Tolerance: ±10%; Value: 2200pF; Applications: Automotive; Capacitance: 2200pF; ComponentLink1Description: Datasheet; ComponentLink1URL: https://product.tdk.com/info/en/catalog/datasheets/mlcc_automotive_hightemp_en.pdf?ref_disty=digikey; ComponentLink2Description: DigiKey Link; ComponentLink2URL: http://digikey.com/product-detail/en/tdk-corporation/CGA2B2X8R2A222K050BA/445-15943-1-ND/4490651; Device Package: 0402 (1005 Metric); Features: High Temperature; LastUpdated: 9/2/2020 1:02:16 AM; Lifecycle Status: Active; Minimum Order: 1; Mounting Type: Surface Mount, MLCC; Operating Temperature: -55°C ~ 150°C; Package / Case: 0402 (1005 Metric); Packaging: TapeAndReel; PartId: 5271; Part Status: Active; Price: 0.06; Ratings: AEC-Q200; Series: CGA; Size / Dimension: 0.039" L x 0.020" W (1.00mm x 0.50mm); Supplier 1: DigiKey; Supplier Part Number 1: 445-15943-1-ND; Temperature Coefficient: X8R; Thickness (Max): 0.022" (0.55mm); Voltage - Rated: 100V
footprint CAP 0402_1005
pins: 1, 2

## CGA2B2X8R2A222M050BA
designator C?, comment 2200pF
CAP CER 2200PF 100V X8R 0402; Part Number: CGA2B2X8R2A222M050BA; Manufacturer: TDK Corporation; Tolerance: ±20%; Value: 2200pF; Applications: Automotive; Capacitance: 2200pF; ComponentLink1Description: Datasheet; ComponentLink1URL: https://product.tdk.com/info/en/catalog/datasheets/mlcc_automotive_hightemp_en.pdf?ref_disty=digikey; ComponentLink2Description: DigiKey Link; ComponentLink2URL: http://digikey.com/product-detail/en/tdk-corporation/CGA2B2X8R2A222M050BA/445-15944-1-ND/4490652; Device Package: 0402 (1005 Metric); Features: High Temperature; LastUpdated: 9/2/2020 1:02:06 AM; Lifecycle Status: Active; Minimum Order: 1; Mounting Type: Surface Mount, MLCC; Operating Temperature: -55°C ~ 150°C; Package / Case: 0402 (1005 Metric); Packaging: TapeAndReel; PartId: 10197; Part Status: Active; Price: 0.05; Ratings: AEC-Q200; Series: CGA; Size / Dimension: 0.039" L x 0.020" W (1.00mm x 0.50mm); Supplier 1: DigiKey; Supplier Part Number 1: 445-15944-1-ND; Temperature Coefficient: X8R; Thickness (Max): 0.022" (0.55mm); Voltage - Rated: 100V
footprint CAP 0402_1005
pins: 1, 2

## CGA2B2X8R2A471K050BA
designator C?, comment 470pF
CAP CER 470PF 100V X8R 0402; Part Number: CGA2B2X8R2A471K050BA; Manufacturer: TDK Corporation; Tolerance: ±10%; Value: 470pF; Applications: Automotive; Capacitance: 470pF; ComponentLink1Description: Datasheet; ComponentLink1URL: https://product.tdk.com/info/en/catalog/datasheets/mlcc_automotive_hightemp_en.pdf?ref_disty=digikey; ComponentLink2Description: DigiKey Link; ComponentLink2URL: http://digikey.com/product-detail/en/tdk-corporation/CGA2B2X8R2A471K050BA/445-15947-1-ND/4490655; Device Package: 0402 (1005 Metric); Features: High Temperature; LastUpdated: 9/2/2020 1:02:04 AM; Lifecycle Status: Active; Minimum Order: 1; Mounting Type: Surface Mount, MLCC; Operating Temperature: -55°C ~ 150°C; Package / Case: 0402 (1005 Metric); Packaging: TapeAndReel; PartId: 10987; Part Status: Active; Price: 0.04; Ratings: AEC-Q200; Series: CGA; Size / Dimension: 0.039" L x 0.020" W (1.00mm x 0.50mm); Supplier 1: DigiKey; Supplier Part Number 1: 445-15947-1-ND; Temperature Coefficient: X8R; Thickness (Max): 0.022" (0.55mm); Voltage - Rated: 100V
footprint CAP 0402_1005
pins: 1, 2

## CGA2B2X8R2A471M050BA
designator C?, comment 470pF
CAP CER 470PF 100V X8R 0402; Part Number: CGA2B2X8R2A471M050BA; Manufacturer: TDK Corporation; Tolerance: ±20%; Value: 470pF; Applications: Automotive; Capacitance: 470pF; ComponentLink1Description: Datasheet; ComponentLink1URL: https://product.tdk.com/info/en/catalog/datasheets/mlcc_automotive_hightemp_en.pdf?ref_disty=digikey; ComponentLink2Description: DigiKey Link; ComponentLink2URL: http://digikey.com/product-detail/en/tdk-corporation/CGA2B2X8R2A471M050BA/445-15948-1-ND/4490656; Device Package: 0402 (1005 Metric); Features: High Temperature; LastUpdated: 9/2/2020 1:02:07 AM; Lifecycle Status: Active; Minimum Order: 1; Mounting Type: Surface Mount, MLCC; Operating Temperature: -55°C ~ 150°C; Package / Case: 0402 (1005 Metric); Packaging: TapeAndReel; PartId: 9507; Part Status: Active; Price: 0.04; Ratings: AEC-Q200; Series: CGA; Size / Dimension: 0.039" L x 0.020" W (1.00mm x 0.50mm); Supplier 1: DigiKey; Supplier Part Number 1: 445-15948-1-ND; Temperature Coefficient: X8R; Thickness (Max): 0.022" (0.55mm); Voltage - Rated: 100V
footprint CAP 0402_1005
pins: 1, 2

## CGA2B3X5R1A154K050BB
designator C?, comment 0.15µF
CAP CER 0.15UF 10V X5R 0402; Part Number: CGA2B3X5R1A154K050BB; Manufacturer: TDK Corporation; Tolerance: ±10%; Value: 0.15µF; Applications: Automotive; Capacitance: 0.15µF; ComponentLink1Description: Datasheet; ComponentLink1URL: https://product.tdk.com/info/en/catalog/datasheets/mlcc_automotive_general_en.pdf?ref_disty=digikey; ComponentLink2Description: DigiKey Link; ComponentLink2URL: http://digikey.com/product-detail/en/tdk-corporation/CGA2B3X5R1A154K050BB/445-12158-1-ND/3953824; Device Package: 0402 (1005 Metric); LastUpdated: 9/2/2020 1:02:18 AM; Lifecycle Status: Active; Minimum Order: 1; Mounting Type: Surface Mount, MLCC; Operating Temperature: -55°C ~ 85°C; Package / Case: 0402 (1005 Metric); Packaging: TapeAndReel; PartId: 4713; Part Status: Active; Price: 0.02; Ratings: AEC-Q200; Series: CGA; Size / Dimension: 0.039" L x 0.020" W (1.00mm x 0.50mm); Supplier 1: DigiKey; Supplier Part Number 1: 445-12158-1-ND; Temperature Coefficient: X5R; Thickness (Max): 0.022" (0.55mm); Voltage - Rated: 10V
footprint CAP 0402_1005
pins: 1, 2

## CGA2B3X5R1A154M050BB
designator C?, comment 0.15µF
CAP CER 0.15UF 10V X5R 0402; Part Number: CGA2B3X5R1A154M050BB; Manufacturer: TDK Corporation; Tolerance: ±20%; Value: 0.15µF; Applications: Automotive; Capacitance: 0.15µF; ComponentLink1Description: Datasheet; ComponentLink1URL: https://product.tdk.com/info/en/catalog/datasheets/mlcc_automotive_general_en.pdf?ref_disty=digikey; ComponentLink2Description: DigiKey Link; ComponentLink2URL: http://digikey.com/product-detail/en/tdk-corporation/CGA2B3X5R1A154M050BB/445-12159-1-ND/3953825; Device Package: 0402 (1005 Metric); LastUpdated: 9/2/2020 1:01:23 AM; Lifecycle Status: Active; Minimum Order: 1; Mounting Type: Surface Mount, MLCC; Operating Temperature: -55°C ~ 85°C; Package / Case: 0402 (1005 Metric); Packaging: TapeAndReel; PartId: 13122; Part Status: Active; Price: 0.02; Ratings: AEC-Q200; Series: CGA; Size / Dimension: 0.039" L x 0.020" W (1.00mm x 0.50mm); Supplier 1: DigiKey; Supplier Part Number 1: 445-12159-1-ND; Temperature Coefficient: X5R; Thickness (Max): 0.022" (0.55mm); Voltage - Rated: 10V
footprint CAP 0402_1005
pins: 1, 2

## CGA2B3X5R1A224K050BB
designator C?, comment 0.22µF
CAP CER 0.22UF 10V X5R 0402; Part Number: CGA2B3X5R1A224K050BB; Manufacturer: TDK Corporation; Tolerance: ±10%; Value: 0.22µF; Applications: Automotive; Capacitance: 0.22µF; ComponentLink1Description: Datasheet; ComponentLink1URL: https://product.tdk.com/info/en/catalog/datasheets/mlcc_automotive_general_en.pdf?ref_disty=digikey; ComponentLink2Description: DigiKey Link; ComponentLink2URL: http://digikey.com/product-detail/en/tdk-corporation/CGA2B3X5R1A224K050BB/445-12160-1-ND/3953826; Device Package: 0402 (1005 Metric); LastUpdated: 9/2/2020 1:02:18 AM; Lifecycle Status: Active; Minimum Order: 1; Mounting Type: Surface Mount, MLCC; Operating Temperature: -55°C ~ 85°C; Package / Case: 0402 (1005 Metric); Packaging: TapeAndReel; PartId: 4701; Part Status: Active; Price: 0.02; Ratings: AEC-Q200; Series: CGA; Size / Dimension: 0.039" L x 0.020" W (1.00mm x 0.50mm); Supplier 1: DigiKey; Supplier Part Number 1: 445-12160-1-ND; Temperature Coefficient: X5R; Thickness (Max): 0.022" (0.55mm); Voltage - Rated: 10V
footprint CAP 0402_1005
pins: 1, 2

## CGA2B3X5R1A224M050BB
designator C?, comment 0.22µF
CAP CER 0.22UF 10V X5R 0402; Part Number: CGA2B3X5R1A224M050BB; Manufacturer: TDK Corporation; Tolerance: ±20%; Value: 0.22µF; Applications: Automotive; Capacitance: 0.22µF; ComponentLink1Description: Datasheet; ComponentLink1URL: https://product.tdk.com/info/en/catalog/datasheets/mlcc_automotive_general_en.pdf?ref_disty=digikey; ComponentLink2Description: DigiKey Link; ComponentLink2URL: http://digikey.com/product-detail/en/tdk-corporation/CGA2B3X5R1A224M050BB/445-12161-1-ND/3953827; Device Package: 0402 (1005 Metric); LastUpdated: 9/2/2020 1:01:24 AM; Lifecycle Status: Active; Minimum Order: 1; Mounting Type: Surface Mount, MLCC; Operating Temperature: -55°C ~ 85°C; Package / Case: 0402 (1005 Metric); Packaging: TapeAndReel; PartId: 13110; Part Status: Active; Price: 0.02; Ratings: AEC-Q200; Series: CGA; Size / Dimension: 0.039" L x 0.020" W (1.00mm x 0.50mm); Supplier 1: DigiKey; Supplier Part Number 1: 445-12161-1-ND; Temperature Coefficient: X5R; Thickness (Max): 0.022" (0.55mm); Voltage - Rated: 10V
footprint CAP 0402_1005
pins: 1, 2

## CGA2B3X5R1E104K050BB
designator C?, comment 0.1µF
CAP CER 0.1UF 25V X5R 0402; Part Number: CGA2B3X5R1E104K050BB; Manufacturer: TDK Corporation; Tolerance: ±10%; Value: 0.1µF; Applications: Automotive; Capacitance: 0.1µF; ComponentLink1Description: Datasheet; ComponentLink1URL: https://product.tdk.com/info/en/catalog/datasheets/mlcc_automotive_general_en.pdf?ref_disty=digikey; ComponentLink2Description: DigiKey Link; ComponentLink2URL: http://digikey.com/product-detail/en/tdk-corporation/CGA2B3X5R1E104K050BB/445-12185-1-ND/3953851; Device Package: 0402 (1005 Metric); LastUpdated: 9/2/2020 1:01:42 AM; Lifecycle Status: Active; Minimum Order: 1; Mounting Type: Surface Mount, MLCC; Operating Temperature: -55°C ~ 85°C; Package / Case: 0402 (1005 Metric); Packaging: TapeAndReel; PartId: 12448; Part Status: Active; Price: 0.02; Ratings: AEC-Q200; Series: CGA; Size / Dimension: 0.039" L x 0.020" W (1.00mm x 0.50mm); Supplier 1: DigiKey; Supplier Part Number 1: 445-12185-1-ND; Temperature Coefficient: X5R; Thickness (Max): 0.022" (0.55mm); Voltage - Rated: 25V
footprint CAP 0402_1005
pins: 1, 2

## CGA2B3X5R1E104M050BB
designator C?, comment 0.1µF
CAP CER 0.1UF 25V X5R 0402; Part Number: CGA2B3X5R1E104M050BB; Manufacturer: TDK Corporation; Tolerance: ±20%; Value: 0.1µF; Applications: Automotive; Capacitance: 0.1µF; ComponentLink1Description: Datasheet; ComponentLink1URL: https://product.tdk.com/info/en/catalog/datasheets/mlcc_automotive_general_en.pdf?ref_disty=digikey; ComponentLink2Description: DigiKey Link; ComponentLink2URL: http://digikey.com/product-detail/en/tdk-corporation/CGA2B3X5R1E104M050BB/445-12186-1-ND/3953852; Device Package: 0402 (1005 Metric); LastUpdated: 9/2/2020 1:02:18 AM; Lifecycle Status: Active; Minimum Order: 1; Mounting Type: Surface Mount, MLCC; Operating Temperature: -55°C ~ 85°C; Package / Case: 0402 (1005 Metric); Packaging: TapeAndReel; PartId: 4477; Part Status: Active; Price: 0.02; Ratings: AEC-Q200; Series: CGA; Size / Dimension: 0.039" L x 0.020" W (1.00mm x 0.50mm); Supplier 1: DigiKey; Supplier Part Number 1: 445-12186-1-ND; Temperature Coefficient: X5R; Thickness (Max): 0.022" (0.55mm); Voltage - Rated: 25V
footprint CAP 0402_1005
pins: 1, 2

## CGA2B3X5R1E683K050BB
designator C?, comment 0.068µF
CAP CER 0.068UF 25V X5R 0402; Part Number: CGA2B3X5R1E683K050BB; Manufacturer: TDK Corporation; Tolerance: ±10%; Value: 0.068µF; Applications: Automotive; Capacitance: 0.068µF; ComponentLink1Description: Datasheet; ComponentLink1URL: https://product.tdk.com/info/en/catalog/datasheets/mlcc_automotive_general_en.pdf?ref_disty=digikey; ComponentLink2Description: DigiKey Link; ComponentLink2URL: http://digikey.com/product-detail/en/tdk-corporation/CGA2B3X5R1E683K050BB/445-12183-1-ND/3953849; Device Package: 0402 (1005 Metric); LastUpdated: 9/2/2020 1:02:10 AM; Lifecycle Status: Active; Minimum Order: 1; Mounting Type: Surface Mount, MLCC; Operating Temperature: -55°C ~ 85°C; Package / Case: 0402 (1005 Metric); Packaging: TapeAndReel; PartId: 8035; Part Status: Active; Price: 0.01; Ratings: AEC-Q200; Series: CGA; Size / Dimension: 0.039" L x 0.020" W (1.00mm x 0.50mm); Supplier 1: DigiKey; Supplier Part Number 1: 445-12183-1-ND; Temperature Coefficient: X5R; Thickness (Max): 0.022" (0.55mm); Voltage - Rated: 25V
footprint CAP 0402_1005
pins: 1, 2

## CGA2B3X5R1E683M050BB
designator C?, comment 0.068µF
CAP CER 0.068UF 25V X5R 0402; Part Number: CGA2B3X5R1E683M050BB; Manufacturer: TDK Corporation; Tolerance: ±20%; Value: 0.068µF; Applications: Automotive; Capacitance: 0.068µF; ComponentLink1Description: Datasheet; ComponentLink1URL: https://product.tdk.com/info/en/catalog/datasheets/mlcc_automotive_general_en.pdf?ref_disty=digikey; ComponentLink2Description: DigiKey Link; ComponentLink2URL: http://digikey.com/product-detail/en/tdk-corporation/CGA2B3X5R1E683M050BB/445-12184-1-ND/3953850; Device Package: 0402 (1005 Metric); LastUpdated: 9/2/2020 1:02:06 AM; Lifecycle Status: Active; Minimum Order: 1; Mounting Type: Surface Mount, MLCC; Operating Temperature: -55°C ~ 85°C; Package / Case: 0402 (1005 Metric); Packaging: TapeAndReel; PartId: 10034; Part Status: Active; Price: 0.01; Ratings: AEC-Q200; Series: CGA; Size / Dimension: 0.039" L x 0.020" W (1.00mm x 0.50mm); Supplier 1: DigiKey; Supplier Part Number 1: 445-12184-1-ND; Temperature Coefficient: X5R; Thickness (Max): 0.022" (0.55mm); Voltage - Rated: 25V
footprint CAP 0402_1005
pins: 1, 2

## CGA2B3X5R1H103K050BB
designator C?, comment 10000pF
CAP CER 10000PF 50V X5R 0402; Part Number: CGA2B3X5R1H103K050BB; Manufacturer: TDK Corporation; Tolerance: ±10%; Value: 10000pF; Applications: Automotive; Capacitance: 10000pF; ComponentLink1Description: Datasheet; ComponentLink1URL: https://product.tdk.com/info/en/catalog/datasheets/mlcc_automotive_general_en.pdf?ref_disty=digikey; ComponentLink2Description: DigiKey Link; ComponentLink2URL: http://digikey.com/product-detail/en/tdk-corporation/CGA2B3X5R1H103K050BB/445-12201-1-ND/3953867; Device Package: 0402 (1005 Metric); LastUpdated: 9/2/2020 1:02:09 AM; Lifecycle Status: Active; Minimum Order: 1; Mounting Type: Surface Mount, MLCC; Operating Temperature: -55°C ~ 85°C; Package / Case: 0402 (1005 Metric); Packaging: TapeAndReel; PartId: 8851; Part Status: Active; Price: 0.01; Ratings: AEC-Q200; Series: CGA; Size / Dimension: 0.039" L x 0.020" W (1.00mm x 0.50mm); Supplier 1: DigiKey; Supplier Part Number 1: 445-12201-1-ND; Temperature Coefficient: X5R; Thickness (Max): 0.022" (0.55mm); Voltage - Rated: 50V
footprint CAP 0402_1005
pins: 1, 2

## CGA2B3X5R1H103M050BB
designator C?, comment 10000pF
CAP CER 10000PF 50V X5R 0402; Part Number: CGA2B3X5R1H103M050BB; Manufacturer: TDK Corporation; Tolerance: ±20%; Value: 10000pF; Applications: Automotive; Capacitance: 10000pF; ComponentLink1Description: Datasheet; ComponentLink1URL: https://product.tdk.com/info/en/catalog/datasheets/mlcc_automotive_general_en.pdf?ref_disty=digikey; ComponentLink2Description: DigiKey Link; ComponentLink2URL: http://digikey.com/product-detail/en/tdk-corporation/CGA2B3X5R1H103M050BB/445-12202-1-ND/3953868; Device Package: 0402 (1005 Metric); LastUpdated: 9/2/2020 1:02:24 AM; Lifecycle Status: Active; Minimum Order: 1; Mounting Type: Surface Mount, MLCC; Operating Temperature: -55°C ~ 85°C; Package / Case: 0402 (1005 Metric); Packaging: TapeAndReel; PartId: 1984; Part Status: Active; Price: 0.01; Ratings: AEC-Q200; Series: CGA; Size / Dimension: 0.039" L x 0.020" W (1.00mm x 0.50mm); Supplier 1: DigiKey; Supplier Part Number 1: 445-12202-1-ND; Temperature Coefficient: X5R; Thickness (Max): 0.022" (0.55mm); Voltage - Rated: 50V
footprint CAP 0402_1005
pins: 1, 2

## CGA2B3X5R1H104K050BB
designator C?, comment 0.1µF
CAP CER 0.1UF 50V X5R 0402; Part Number: CGA2B3X5R1H104K050BB; Manufacturer: TDK Corporation; Tolerance: ±10%; Value: 0.1µF; Applications: Automotive; Capacitance: 0.1µF; ComponentLink1Description: Datasheet; ComponentLink1URL: https://product.tdk.com/info/en/catalog/datasheets/mlcc_automotive_general_en.pdf?ref_disty=digikey; ComponentLink2Description: DigiKey Link; ComponentLink2URL: http://digikey.com/product-detail/en/tdk-corporation/CGA2B3X5R1H104K050BB/445-12213-1-ND/3953879; Device Package: 0402 (1005 Metric); LastUpdated: 9/2/2020 1:02:21 AM; Lifecycle Status: Active; Minimum Order: 1; Mounting Type: Surface Mount, MLCC; Operating Temperature: -55°C ~ 85°C; Package / Case: 0402 (1005 Metric); Packaging: TapeAndReel; PartId: 3252; Part Status: Active; Price: 0.02; Ratings: AEC-Q200; Series: CGA; Size / Dimension: 0.039" L x 0.020" W (1.00mm x 0.50mm); Supplier 1: DigiKey; Supplier Part Number 1: 445-12213-1-ND; Temperature Coefficient: X5R; Thickness (Max): 0.022" (0.55mm); Voltage - Rated: 50V
footprint CAP 0402_1005
pins: 1, 2

## CGA2B3X5R1H104M050BB
designator C?, comment 0.1µF
CAP CER 0.1UF 50V X5R 0402; Part Number: CGA2B3X5R1H104M050BB; Manufacturer: TDK Corporation; Tolerance: ±20%; Value: 0.1µF; Applications: Automotive; Capacitance: 0.1µF; ComponentLink1Description: Datasheet; ComponentLink1URL: https://product.tdk.com/info/en/catalog/datasheets/mlcc_automotive_general_en.pdf?ref_disty=digikey; ComponentLink2Description: DigiKey Link; ComponentLink2URL: http://digikey.com/product-detail/en/tdk-corporation/CGA2B3X5R1H104M050BB/445-12214-1-ND/3953880; Device Package: 0402 (1005 Metric); LastUpdated: 9/2/2020 1:02:25 AM; Lifecycle Status: Active; Minimum Order: 1; Mounting Type: Surface Mount, MLCC; Operating Temperature: -55°C ~ 85°C; Package / Case: 0402 (1005 Metric); Packaging: TapeAndReel; PartId: 1792; Part Status: Active; Price: 0.02; Ratings: AEC-Q200; Series: CGA; Size / Dimension: 0.039" L x 0.020" W (1.00mm x 0.50mm); Supplier 1: DigiKey; Supplier Part Number 1: 445-12214-1-ND; Temperature Coefficient: X5R; Thickness (Max): 0.022" (0.55mm); Voltage - Rated: 50V
footprint CAP 0402_1005
pins: 1, 2

## CGA2B3X5R1H153K050BB
designator C?, comment 0.015µF
CAP CER 0.015UF 50V X5R 0402; Part Number: CGA2B3X5R1H153K050BB; Manufacturer: TDK Corporation; Tolerance: ±10%; Value: 0.015µF; Applications: Automotive; Capacitance: 0.015µF; ComponentLink1Description: Datasheet; ComponentLink1URL: https://product.tdk.com/info/en/catalog/datasheets/mlcc_automotive_general_en.pdf?ref_disty=digikey; ComponentLink2Description: DigiKey Link; ComponentLink2URL: http://digikey.com/product-detail/en/tdk-corporation/CGA2B3X5R1H153K050BB/445-12203-1-ND/3953869; Device Package: 0402 (1005 Metric); LastUpdated: 9/2/2020 1:02:12 AM; Lifecycle Status: Active; Minimum Order: 1; Mounting Type: Surface Mount, MLCC; Operating Temperature: -55°C ~ 85°C; Package / Case: 0402 (1005 Metric); Packaging: TapeAndReel; PartId: 7318; Part Status: Active; Price: 0.01; Ratings: AEC-Q200; Series: CGA; Size / Dimension: 0.039" L x 0.020" W (1.00mm x 0.50mm); Supplier 1: DigiKey; Supplier Part Number 1: 445-12203-1-ND; Temperature Coefficient: X5R; Thickness (Max): 0.022" (0.55mm); Voltage - Rated: 50V
footprint CAP 0402_1005
pins: 1, 2

## CGA2B3X5R1H153M050BB
designator C?, comment 0.015µF
CAP CER 0.015UF 50V X5R 0402; Part Number: CGA2B3X5R1H153M050BB; Manufacturer: TDK Corporation; Tolerance: ±20%; Value: 0.015µF; Applications: Automotive; Capacitance: 0.015µF; ComponentLink1Description: Datasheet; ComponentLink1URL: https://product.tdk.com/info/en/catalog/datasheets/mlcc_automotive_general_en.pdf?ref_disty=digikey; ComponentLink2Description: DigiKey Link; ComponentLink2URL: http://digikey.com/product-detail/en/tdk-corporation/CGA2B3X5R1H153M050BB/445-12204-1-ND/3953870; Device Package: 0402 (1005 Metric); LastUpdated: 9/2/2020 1:02:16 AM; Lifecycle Status: Active; Minimum Order: 1; Mounting Type: Surface Mount, MLCC; Operating Temperature: -55°C ~ 85°C; Package / Case: 0402 (1005 Metric); Packaging: TapeAndReel; PartId: 5219; Part Status: Active; Price: 0.01; Ratings: AEC-Q200; Series: CGA; Size / Dimension: 0.039" L x 0.020" W (1.00mm x 0.50mm); Supplier 1: DigiKey; Supplier Part Number 1: 445-12204-1-ND; Temperature Coefficient: X5R; Thickness (Max): 0.022" (0.55mm); Voltage - Rated: 50V
footprint CAP 0402_1005
pins: 1, 2

## CGA2B3X5R1H223K050BB
designator C?, comment 0.022µF
CAP CER 0.022UF 50V X5R 0402; Part Number: CGA2B3X5R1H223K050BB; Manufacturer: TDK Corporation; Tolerance: ±10%; Value: 0.022µF; Applications: Automotive; Capacitance: 0.022µF; ComponentLink1Description: Datasheet; ComponentLink1URL: https://product.tdk.com/info/en/catalog/datasheets/mlcc_automotive_general_en.pdf?ref_disty=digikey; ComponentLink2Description: DigiKey Link; ComponentLink2URL: http://digikey.com/product-detail/en/tdk-corporation/CGA2B3X5R1H223K050BB/445-12205-1-ND/3953871; Device Package: 0402 (1005 Metric); LastUpdated: 9/2/2020 1:02:24 AM; Lifecycle Status: Active; Minimum Order: 1; Mounting Type: Surface Mount, MLCC; Operating Temperature: -55°C ~ 85°C; Package / Case: 0402 (1005 Metric); Packaging: TapeAndReel; PartId: 1952; Part Status: Active; Price: 0.01; Ratings: AEC-Q200; Series: CGA; Size / Dimension: 0.039" L x 0.020" W (1.00mm x 0.50mm); Supplier 1: DigiKey; Supplier Part Number 1: 445-12205-1-ND; Temperature Coefficient: X5R; Thickness (Max): 0.022" (0.55mm); Voltage - Rated: 50V
footprint CAP 0402_1005
pins: 1, 2